# Altium footprint library PcbLib_RC.PcbLib: 34 footprints (part 1 of 3)
Each footprint in its own frame and in the unit in brackets; x right, y up, seen from the top. Pads: shape width x height; smd on the part's side, far side on the other; paste and mask are expansions set on the pad; w line width, h text height; cw(c..) or ccw(c..) is an arc to the next point about the centre after c.
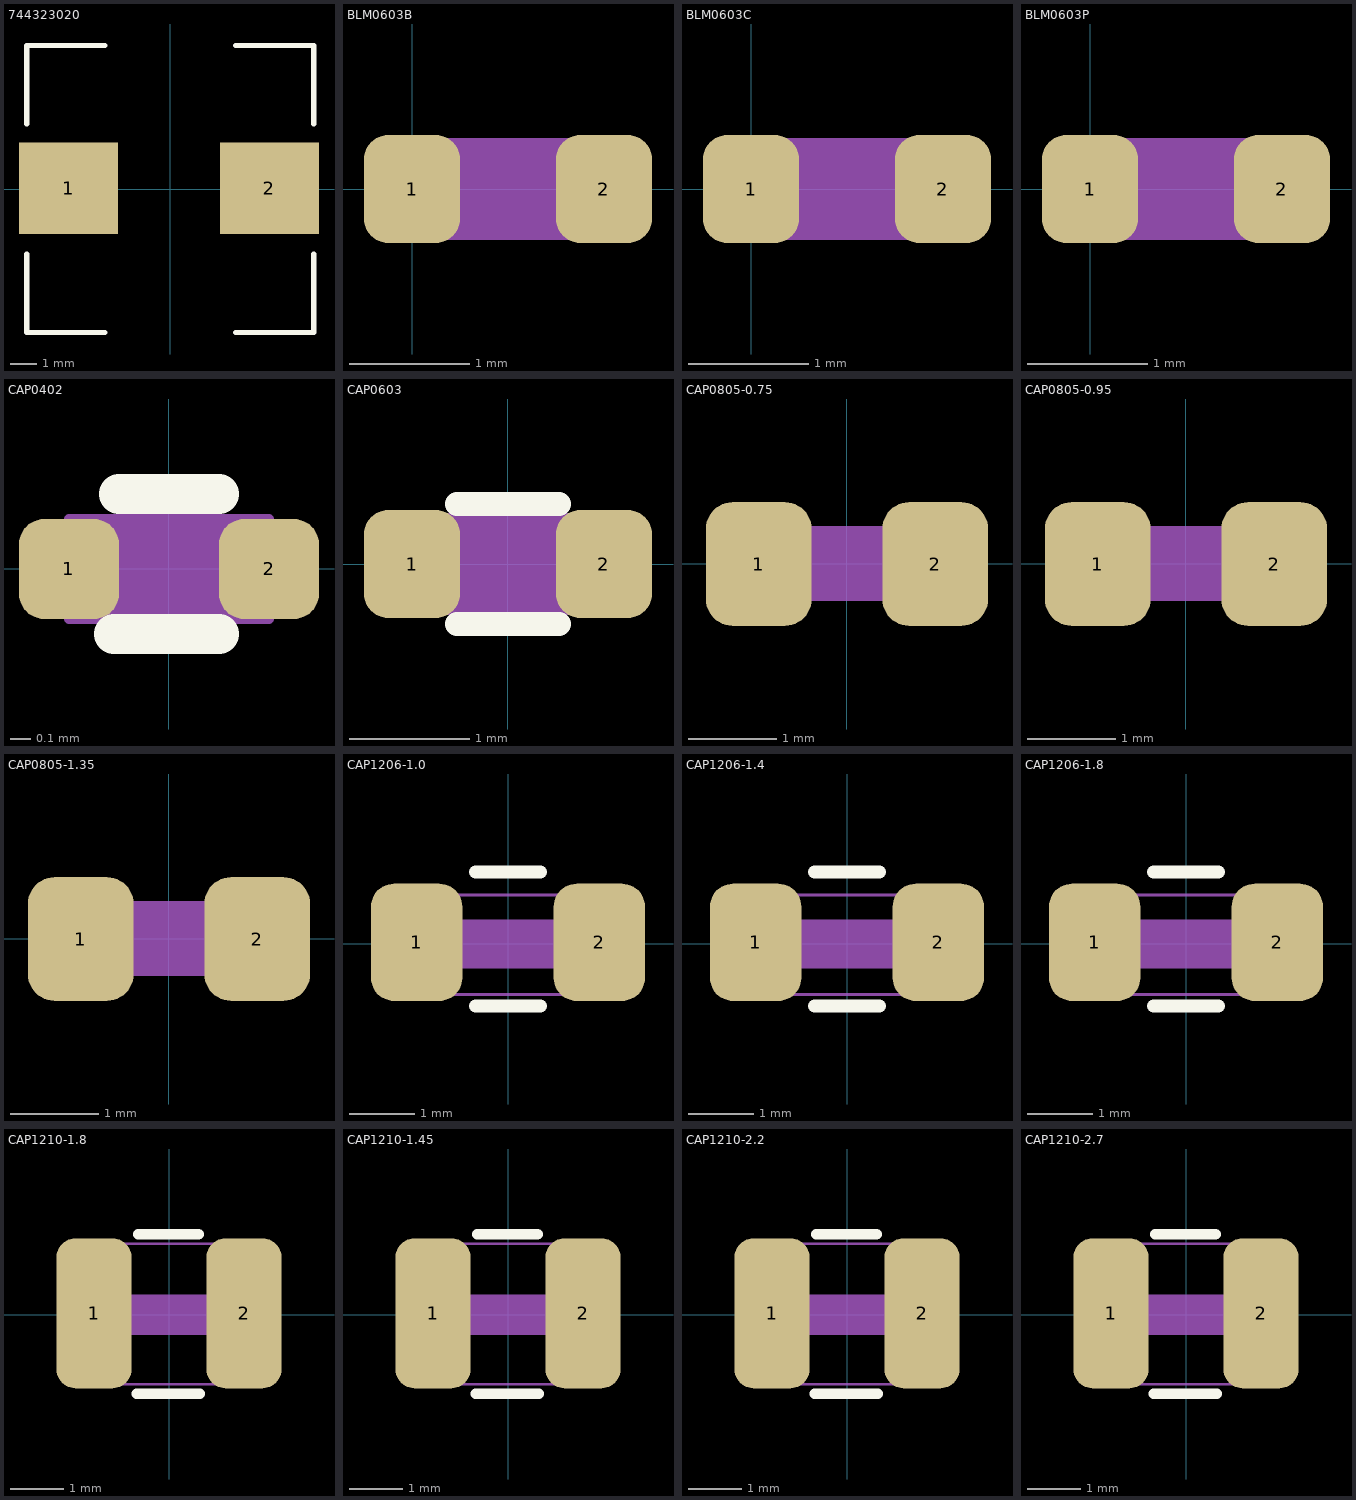
[diagram p0: the footprints below, top view; thin cyan lines are the x and y axes]

## 744323020 [mm]
pads (2):
  rect 3.8x3.5 smd paste-5: 1(-3.9,0.025) 2(3.8,0.025)
Top Overlay:
  lines w0.2: -5.5,-2.5 -5.5,-5.5 -2.5,-5.5 ; -5.5,2.5 -5.5,5.5 -2.5,5.5 ; 2.5,-5.5 5.5,-5.5 5.5,-2.5 ; 2.5,5.5 5.5,5.5 5.5,2.5
3D body "STEP-WE-HCI-1030-rev1_Kirra.STEP": height 1.8, standoff -1.01, extent -5.3,-5.3 5.3,5.3

## BLM0603B [mm] "Filter 0603"
height 0.8
pads (2):
  rrect50% 0.8x0.9 smd mask+0.05: 1(0,0) 2(1.6,0)
Mechanical 3:
  lines w0.05: 0,-0.4 1.6,-0.4 1.6,0.4 0,0.4 0,-0.4
Mechanical 4:
  region: 0.025,0.375 0.025,-0.375 1.575,-0.375 1.575,0.375
3D body "BLM18K_Blue.STEP": height 0.8, standoff 0, extent 0,-0.4 1.6,0.4

## BLM0603C [mm] "Filter 0603"
height 0.8
pads (2):
  rrect50% 0.8x0.9 smd mask+0.05: 1(0,0) 2(1.6,0)
Mechanical 3:
  lines w0.05: 0,-0.4 1.6,-0.4 1.6,0.4 0,0.4 0,-0.4
Mechanical 4:
  region: 0.025,0.375 0.025,-0.375 1.575,-0.375 1.575,0.375
3D body "BLM18K_Cyan.STEP": height 0.8, standoff 0, extent 0,-0.4 1.6,0.4

## BLM0603P [mm] "Filter 0603"
height 0.8
pads (2):
  rrect50% 0.8x0.9 smd mask+0.05: 1(0,0) 2(1.6,0)
Mechanical 3:
  lines w0.05: 0,-0.4 1.6,-0.4 1.6,0.4 0,0.4 0,-0.4
Mechanical 4:
  region: 0.025,0.375 0.025,-0.375 1.575,-0.375 1.575,0.375
3D body "BLM18K_Pink.STEP": height 0.8, standoff 0, extent -0.025,-0.4 1.575,0.4

## CAP0402 [mm]
height 0.6
pads (2):
  rrect50% 0.5x0.5 smd: 1(-0.5,0) 2(0.5,0)
Top Overlay:
  lines w0.2: -0.275,-0.325 0.25,-0.325 ; -0.25,0.375 0.25,0.375
Mechanical 3:
  lines w0.05: -0.5,-0.25 0.5,-0.25 0.5,0.25 -0.5,0.25 -0.5,-0.25
  text ".Designator" at -0.275,-0.15 h0.5
Mechanical 4:
  region: -0.475,0.225 -0.475,-0.225 0.475,-0.225 0.475,0.225
3D body "CAPC-0402-T0.55-BN.stp": height 0.55, standoff 0, extent -0.525,-0.275 0.525,0.275

## CAP0603 [mm] "Capacitor 0603"
height 0.6
pads (2):
  rrect50% 0.8x0.9 smd: 1(-0.8,0) 2(0.8,0)
Top Overlay:
  lines w0.2: -0.425,-0.5 0.425,-0.5 ; -0.425,0.5 0.425,0.5
Mechanical 3:
  lines w0.05: -0.8,-0.4 0.8,-0.4 0.8,0.4 -0.8,0.4 -0.8,-0.4
  text ".Designator" at -0.7,-0.3 h0.8
Mechanical 4:
  rectangle: -0.775,-0.375 0.775,0.375
3D body "CAPC-0603-T0.9-BN.stp": height 0.9, standoff 0, extent -0.85,-0.45 0.85,0.45

## CAP0805-0.75 [mm] "Capacitor 0805"
height 0.75
pads (2):
  rrect50% 1.2x1.4 smd: 1(-1,-0.005) 2(1,-0.005)
Mechanical 3:
  lines w0.05: -0.8,-0.4 0.8,-0.4 0.8,0.4 -0.8,0.4 -0.8,-0.4
  text ".Designator" at -0.7,-0.3 h0.8
Mechanical 4:
  rectangle: -0.775,-0.375 0.775,0.375
3D body "CAPC-0805-T0.75-BN.stp": height 0.75, standoff 0, extent -1.075,-0.675 1.025,0.675

## CAP0805-0.95 [mm] "Capacitor 0805"
height 0.95
pads (2):
  rrect50% 1.2x1.4 smd: 1(-1,-0.005) 2(1,-0.005)
Mechanical 3:
  lines w0.05: -0.8,-0.4 -0.8,0.4 0.8,0.4 0.8,-0.4 -0.8,-0.4
  text ".Designator" at -0.7,-0.3 h0.8
Mechanical 4:
  rectangle: -0.775,-0.375 0.775,0.375
3D body "CAPC-0805-T0.95-BN.stp": height 0.95, standoff 0, extent -1,-0.675 1.1,0.675

## CAP0805-1.35 [mm] "Capacitor 0805"
height 1.35
pads (2):
  rrect50% 1.2x1.4 smd: 1(-1,-0.005) 2(1,-0.005)
Mechanical 3:
  lines w0.05: -0.8,-0.4 -0.8,0.4 0.8,0.4 0.8,-0.4 -0.8,-0.4
  text ".Designator" at -0.7,-0.3 h0.8
Mechanical 4:
  rectangle: -0.775,-0.375 0.775,0.375
3D body "CAPC-0805-T1.35-BN.stp": height 1.35, standoff 0, extent -1.05,-0.675 1.05,0.675

## CAP1206-1.0 [mm] "Capacitor 1206"
height 1
pads (2):
  rrect50% 1.4x1.8 smd: 1(-1.4,0.025) 2(1.4,0.025)
Top Overlay:
  lines w0.2: -0.5,-0.95 0.5,-0.95 ; -0.5,1.1 0.5,1.1
Mechanical 3:
  lines w0.05: -1.625,-0.775 -1.625,0.75 1.6,0.75 1.6,-0.775 -1.625,-0.775
  text ".Designator" at -0.7,-0.3 h0.8
Mechanical 4:
  rectangle: -0.775,-0.375 0.775,0.375
3D body "CAPC-1206-T1.0-BN.stp": height 1, standoff 0, extent -1.675,-0.8 1.675,0.95

## CAP1206-1.4 [mm] "Capacitor 1206"
height 1.4
pads (2):
  rrect50% 1.4x1.8 smd: 1(-1.4,0.025) 2(1.4,0.025)
Top Overlay:
  lines w0.2: -0.5,-0.95 0.5,-0.95 ; -0.5,1.1 0.5,1.1
Mechanical 3:
  lines w0.05: -1.625,-0.775 -1.625,0.75 1.6,0.75 1.6,-0.775 -1.625,-0.775
  text ".Designator" at -0.7,-0.3 h0.8
Mechanical 4:
  rectangle: -0.775,-0.375 0.775,0.375
3D body "CAPC-1206-T1.4-BN.stp": height 1.4, standoff 0, extent -1.65,-0.85 1.7,0.9

## CAP1206-1.8 [mm] "Capacitor 1206"
height 1.8
pads (2):
  rrect50% 1.4x1.8 smd: 1(-1.4,0.025) 2(1.4,0.025)
Top Overlay:
  lines w0.2: -0.5,-0.95 0.5,-0.95 ; -0.5,1.1 0.5,1.1
Mechanical 3:
  lines w0.05: -1.625,-0.775 -1.625,0.75 1.6,0.75 1.6,-0.775 -1.625,-0.775
  text ".Designator" at -0.7,-0.3 h0.8
Mechanical 4:
  rectangle: -0.775,-0.375 0.775,0.375
3D body "CAPC-1206-T1.8-BN.stp": height 1.8, standoff 0, extent -1.65,-0.875 1.75,0.925

## CAP1210-1.8 [mm] "Capacitor 1210"
height 1.8
pads (2):
  rrect50% 1.4x2.8 smd: 1(-1.4,0.025) 2(1.4,0.025)
Top Overlay:
  lines w0.2: -0.6,-1.475 0.575,-1.475 ; -0.575,1.5 0.55,1.5
Mechanical 3:
  lines w0.05: -1.625,-1.3 1.6,-1.3 1.6,1.325 -1.625,1.325 -1.625,-1.3
  text ".Designator" at -0.7,-0.3 h0.8
Mechanical 4:
  rectangle: -0.775,-0.375 0.775,0.375
3D body "CAPC-1210-T1.8-BN.stp": height 1.8, standoff 0, extent -1.75,-1.325 1.75,1.375

## CAP1210-1.45 [mm] "Capacitor 1210"
height 1.45
pads (2):
  rrect50% 1.4x2.8 smd: 1(-1.4,0.025) 2(1.4,0.025)
Top Overlay:
  lines w0.2: -0.6,-1.475 0.575,-1.475 ; -0.575,1.5 0.55,1.5
Mechanical 3:
  lines w0.05: -1.625,-1.3 -1.625,1.325 1.6,1.325 1.6,-1.3 -1.625,-1.3
  text ".Designator" at -0.7,-0.3 h0.8
Mechanical 4:
  rectangle: -0.775,-0.375 0.775,0.375
3D body "CAPC-1210-T1.45-BN.stp": height 1.45, standoff 0, extent -1.75,-1.325 1.75,1.375

## CAP1210-2.2 [mm] "Capacitor 1210"
height 2.2
pads (2):
  rrect50% 1.4x2.8 smd: 1(-1.4,0.025) 2(1.4,0.025)
Top Overlay:
  lines w0.2: -0.6,-1.475 0.575,-1.475 ; -0.575,1.5 0.55,1.5
Mechanical 3:
  lines w0.05: -1.625,-1.3 1.6,-1.3 1.6,1.325 -1.625,1.325 -1.625,-1.3
  text ".Designator" at -0.7,-0.3 h0.8
Mechanical 4:
  rectangle: -0.775,-0.375 0.775,0.375
3D body "CAPC-1210-T2.2-BN.stp": height 2.2, standoff 0, extent -1.7,-1.35 1.8,1.35

## CAP1210-2.7 [mm] "Capacitor 1210"
height 2.2
pads (2):
  rrect50% 1.4x2.8 smd: 1(-1.4,0.025) 2(1.4,0.025)
Top Overlay:
  lines w0.2: -0.6,-1.475 0.575,-1.475 ; -0.575,1.5 0.55,1.5
Mechanical 3:
  lines w0.05: -1.625,-1.3 -1.625,1.325 1.6,1.325 1.6,-1.3 -1.625,-1.3
  text ".Designator" at -0.7,-0.3 h0.8
Mechanical 4:
  rectangle: -0.775,-0.375 0.775,0.375
3D body "CAPC-1210-T2.7-BN.stp": height 2.7, standoff 0, extent -1.725,-1.325 1.775,1.375